# Altium integrated library BB Video Multiplexer.IntLib: 32 symbols
Pins are listed as number, name and electrical type; pins without a type are passive.

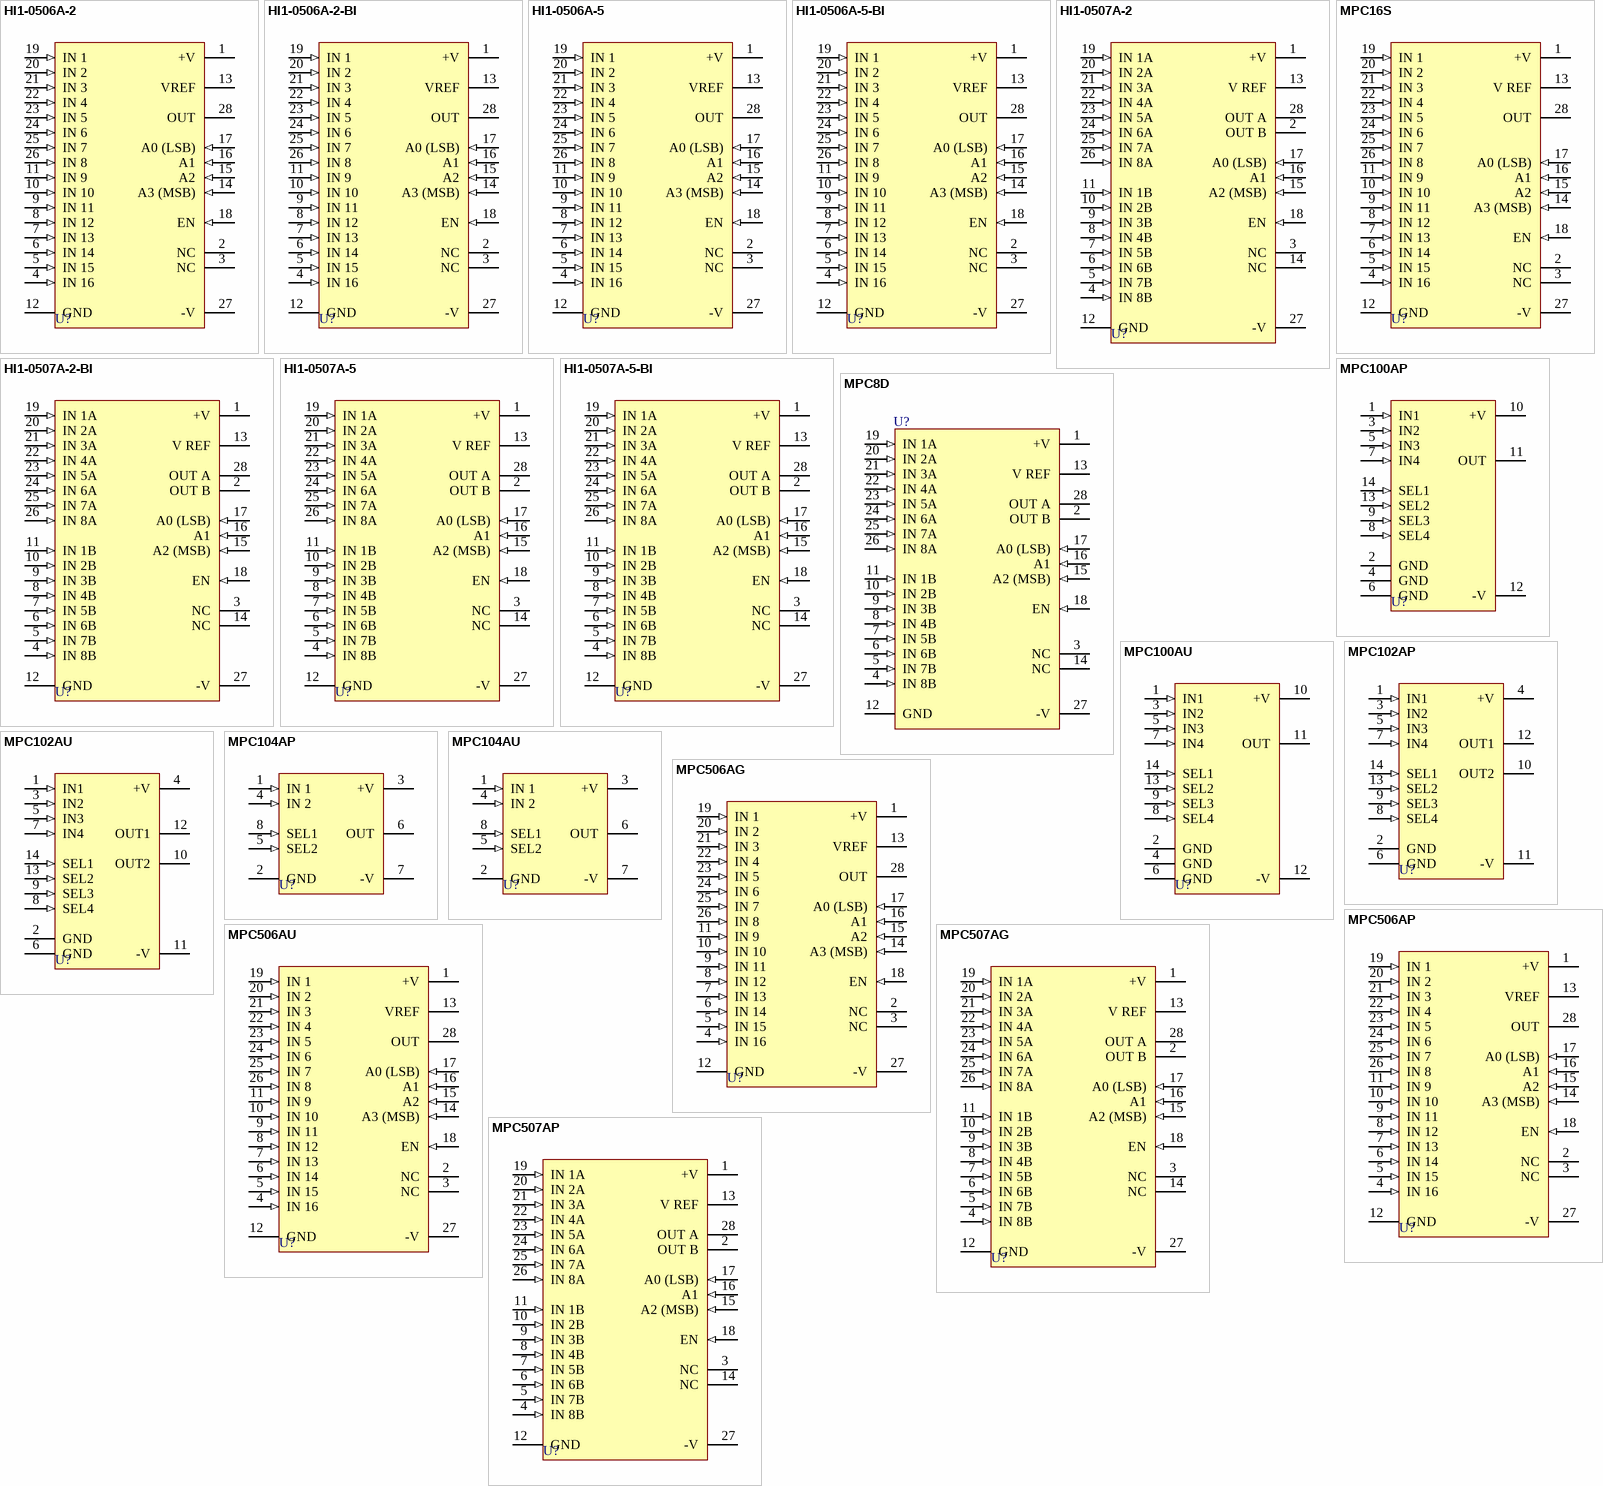
[diagram p0: symbols HI1-0506A-2 to MPC507AP]

## HI1-0506A-2
designator U?
Single-Ended 16-Channel CMOS Analog Multiplexers; Note: Pin 2 and 3 are No internal Connection (NC) pins.; Published: 8-Jun-2000; LatestRevisionDate: 06-Jun-2005; LatestRevisionNote: Stylized 3D Model Added.; DatasheetVersion: 1989; PackageVersion: revB; PackageReference: 126B; Publisher: Altium Limited; PackageDescription: DIP; 28 Leads; Row Spacing 15.24 mm; Pitch 2.54 mm; ComponentLink1Description: Manufacturer Link; ComponentLink1URL: http://www.ti.com/
footprint 126B (DIP; 28 Leads; Row Spacing 15.24 mm; Pitch 2.54 mm)
3D model P28 (DIP; 28 Leads; Row Spacing 15.24 mm; Pitch 2.54 mm)
pins: 1 +V (power), 2 NC, 3 NC, 4 IN 16 (in), 5 IN 15 (in), 6 IN 14 (in), 7 IN 13 (in), 8 IN 12 (in), 9 IN 11 (in), 10 IN 10 (in), 11 IN 9 (in), 12 GND (power), 13 VREF, 14 A3 (MSB) (in), 15 A2 (in), 16 A1 (in), 17 A0 (LSB) (in), 18 EN (in), 19 IN 1 (in), 20 IN 2 (in), 21 IN 3 (in), 22 IN 4 (in), 23 IN 5 (in), 24 IN 6 (in), 25 IN 7 (in), 26 IN 8 (in), 27 -V (power), 28 OUT (hiz)

## HI1-0506A-2-BI
designator U?
Single-Ended 16-Channel CMOS Analog Multiplexers; Note: Pin 2 and 3 are No internal Connection (NC) pins.; Published: 8-Jun-2000; LatestRevisionDate: 06-Jun-2005; LatestRevisionNote: Stylized 3D Model Added.; DatasheetVersion: 1989; PackageVersion: revB; PackageReference: 126B; Publisher: Altium Limited; PackageDescription: DIP; 28 Leads; Row Spacing 15.24 mm; Pitch 2.54 mm; ComponentLink1Description: Manufacturer Link; ComponentLink1URL: http://www.ti.com/
footprint 126B (DIP; 28 Leads; Row Spacing 15.24 mm; Pitch 2.54 mm)
3D model P28 (DIP; 28 Leads; Row Spacing 15.24 mm; Pitch 2.54 mm)
pins: 1 +V (power), 2 NC, 3 NC, 4 IN 16 (in), 5 IN 15 (in), 6 IN 14 (in), 7 IN 13 (in), 8 IN 12 (in), 9 IN 11 (in), 10 IN 10 (in), 11 IN 9 (in), 12 GND (power), 13 VREF, 14 A3 (MSB) (in), 15 A2 (in), 16 A1 (in), 17 A0 (LSB) (in), 18 EN (in), 19 IN 1 (in), 20 IN 2 (in), 21 IN 3 (in), 22 IN 4 (in), 23 IN 5 (in), 24 IN 6 (in), 25 IN 7 (in), 26 IN 8 (in), 27 -V (power), 28 OUT (hiz)

## HI1-0506A-5
designator U?
Single-Ended 16-Channel CMOS Analog Multiplexers; Note: Pin 2 and 3 are No internal Connection (NC) pins.; Published: 8-Jun-2000; LatestRevisionDate: 06-Jun-2005; LatestRevisionNote: Stylized 3D Model Added.; DatasheetVersion: 1989; PackageVersion: revB; PackageReference: 126B; Publisher: Altium Limited; PackageDescription: DIP; 28 Leads; Row Spacing 15.24 mm; Pitch 2.54 mm; ComponentLink1Description: Manufacturer Link; ComponentLink1URL: http://www.ti.com/
footprint 126B (DIP; 28 Leads; Row Spacing 15.24 mm; Pitch 2.54 mm)
3D model P28 (DIP; 28 Leads; Row Spacing 15.24 mm; Pitch 2.54 mm)
pins: 1 +V (power), 2 NC, 3 NC, 4 IN 16 (in), 5 IN 15 (in), 6 IN 14 (in), 7 IN 13 (in), 8 IN 12 (in), 9 IN 11 (in), 10 IN 10 (in), 11 IN 9 (in), 12 GND (power), 13 VREF, 14 A3 (MSB) (in), 15 A2 (in), 16 A1 (in), 17 A0 (LSB) (in), 18 EN (in), 19 IN 1 (in), 20 IN 2 (in), 21 IN 3 (in), 22 IN 4 (in), 23 IN 5 (in), 24 IN 6 (in), 25 IN 7 (in), 26 IN 8 (in), 27 -V (power), 28 OUT (hiz)

## HI1-0506A-5-BI
designator U?
Single-Ended 16-Channel CMOS Analog Multiplexers; Note: Pin 2 and 3 are No internal Connection (NC) pins.; Published: 8-Jun-2000; LatestRevisionDate: 06-Jun-2005; LatestRevisionNote: Stylized 3D Model Added.; DatasheetVersion: 1989; PackageVersion: revB; PackageReference: 126B; Publisher: Altium Limited; PackageDescription: DIP; 28 Leads; Row Spacing 15.24 mm; Pitch 2.54 mm; ComponentLink1Description: Manufacturer Link; ComponentLink1URL: http://www.ti.com/
footprint 126B (DIP; 28 Leads; Row Spacing 15.24 mm; Pitch 2.54 mm)
3D model P28 (DIP; 28 Leads; Row Spacing 15.24 mm; Pitch 2.54 mm)
pins: 1 +V (power), 2 NC, 3 NC, 4 IN 16 (in), 5 IN 15 (in), 6 IN 14 (in), 7 IN 13 (in), 8 IN 12 (in), 9 IN 11 (in), 10 IN 10 (in), 11 IN 9 (in), 12 GND (power), 13 VREF, 14 A3 (MSB) (in), 15 A2 (in), 16 A1 (in), 17 A0 (LSB) (in), 18 EN (in), 19 IN 1 (in), 20 IN 2 (in), 21 IN 3 (in), 22 IN 4 (in), 23 IN 5 (in), 24 IN 6 (in), 25 IN 7 (in), 26 IN 8 (in), 27 -V (power), 28 OUT (hiz)

## HI1-0507A-2
designator U?
Single-Ended Differential 8-Channel CMOS Analog Multiplexers; Note: Pin 3 and 14 are No internal Connection (NC) pins.; Published: 8-Jun-2000; LatestRevisionDate: 06-Jun-2005; LatestRevisionNote: Stylized 3D Model Added.; DatasheetVersion: 1989; PackageVersion: revB; PackageReference: 126B; Publisher: Altium Limited; PackageDescription: DIP; 28 Leads; Row Spacing 15.24 mm; Pitch 2.54 mm; ComponentLink1Description: Manufacturer Link; ComponentLink1URL: http://www.ti.com/
footprint 126B (DIP; 28 Leads; Row Spacing 15.24 mm; Pitch 2.54 mm)
3D model P28 (DIP; 28 Leads; Row Spacing 15.24 mm; Pitch 2.54 mm)
pins: 1 +V (power), 2 OUT B (hiz), 3 NC, 4 IN 8B (in), 5 IN 7B (in), 6 IN 6B (in), 7 IN 5B (in), 8 IN 4B (in), 9 IN 3B (in), 10 IN 2B (in), 11 IN 1B (in), 12 GND (power), 13 V REF, 14 NC, 15 A2 (MSB) (in), 16 A1 (in), 17 A0 (LSB) (in), 18 EN (in), 19 IN 1A (in), 20 IN 2A (in), 21 IN 3A (in), 22 IN 4A (in), 23 IN 5A (in), 24 IN 6A (in), 25 IN 7A (in), 26 IN 8A (in), 27 -V (power), 28 OUT A (hiz)

## HI1-0507A-2-BI
designator U?
Single-Ended Differential 8-Channel CMOS Analog Multiplexers; Note: Pin 3 and 14 are No internal Connection (NC) pins.; Published: 8-Jun-2000; LatestRevisionDate: 06-Jun-2005; LatestRevisionNote: Stylized 3D Model Added.; DatasheetVersion: 1989; PackageVersion: revB; PackageReference: 126B; Publisher: Altium Limited; PackageDescription: DIP; 28 Leads; Row Spacing 15.24 mm; Pitch 2.54 mm; ComponentLink1Description: Manufacturer Link; ComponentLink1URL: http://www.ti.com/
footprint 126B (DIP; 28 Leads; Row Spacing 15.24 mm; Pitch 2.54 mm)
3D model P28 (DIP; 28 Leads; Row Spacing 15.24 mm; Pitch 2.54 mm)
pins: 1 +V (power), 2 OUT B (hiz), 3 NC, 4 IN 8B (in), 5 IN 7B (in), 6 IN 6B (in), 7 IN 5B (in), 8 IN 4B (in), 9 IN 3B (in), 10 IN 2B (in), 11 IN 1B (in), 12 GND (power), 13 V REF, 14 NC, 15 A2 (MSB) (in), 16 A1 (in), 17 A0 (LSB) (in), 18 EN (in), 19 IN 1A (in), 20 IN 2A (in), 21 IN 3A (in), 22 IN 4A (in), 23 IN 5A (in), 24 IN 6A (in), 25 IN 7A (in), 26 IN 8A (in), 27 -V (power), 28 OUT A (hiz)

## HI1-0507A-5
designator U?
Single-Ended Differential 8-Channel CMOS Analog Multiplexers; Note: Pin 3 and 14 are No internal Connection (NC) pins.; Published: 8-Jun-2000; LatestRevisionDate: 06-Jun-2005; LatestRevisionNote: Stylized 3D Model Added.; DatasheetVersion: 1989; PackageVersion: revB; PackageReference: 126B; Publisher: Altium Limited; PackageDescription: DIP; 28 Leads; Row Spacing 15.24 mm; Pitch 2.54 mm; ComponentLink1Description: Manufacturer Link; ComponentLink1URL: http://www.ti.com/
footprint 126B (DIP; 28 Leads; Row Spacing 15.24 mm; Pitch 2.54 mm)
3D model P28 (DIP; 28 Leads; Row Spacing 15.24 mm; Pitch 2.54 mm)
pins: 1 +V (power), 2 OUT B (hiz), 3 NC, 4 IN 8B (in), 5 IN 7B (in), 6 IN 6B (in), 7 IN 5B (in), 8 IN 4B (in), 9 IN 3B (in), 10 IN 2B (in), 11 IN 1B (in), 12 GND (power), 13 V REF, 14 NC, 15 A2 (MSB) (in), 16 A1 (in), 17 A0 (LSB) (in), 18 EN (in), 19 IN 1A (in), 20 IN 2A (in), 21 IN 3A (in), 22 IN 4A (in), 23 IN 5A (in), 24 IN 6A (in), 25 IN 7A (in), 26 IN 8A (in), 27 -V (power), 28 OUT A (hiz)

## HI1-0507A-5-BI
designator U?
Single-Ended Differential 8-Channel CMOS Analog Multiplexers; Note: Pin 3 and 14 are No internal Connection (NC) pins.; Published: 8-Jun-2000; LatestRevisionDate: 06-Jun-2005; LatestRevisionNote: Stylized 3D Model Added.; DatasheetVersion: 1989; PackageVersion: revB; PackageReference: 126B; Publisher: Altium Limited; PackageDescription: DIP; 28 Leads; Row Spacing 15.24 mm; Pitch 2.54 mm; ComponentLink1Description: Manufacturer Link; ComponentLink1URL: http://www.ti.com/
footprint 126B (DIP; 28 Leads; Row Spacing 15.24 mm; Pitch 2.54 mm)
3D model P28 (DIP; 28 Leads; Row Spacing 15.24 mm; Pitch 2.54 mm)
pins: 1 +V (power), 2 OUT B (hiz), 3 NC, 4 IN 8B (in), 5 IN 7B (in), 6 IN 6B (in), 7 IN 5B (in), 8 IN 4B (in), 9 IN 3B (in), 10 IN 2B (in), 11 IN 1B (in), 12 GND (power), 13 V REF, 14 NC, 15 A2 (MSB) (in), 16 A1 (in), 17 A0 (LSB) (in), 18 EN (in), 19 IN 1A (in), 20 IN 2A (in), 21 IN 3A (in), 22 IN 4A (in), 23 IN 5A (in), 24 IN 6A (in), 25 IN 7A (in), 26 IN 8A (in), 27 -V (power), 28 OUT A (hiz)

## MPC8D
designator U?
CMOS Analog Multiplexer; Note: Pin 3 and 14 are No internal Connection (NC) pins.; Published: 8-Jun-2000; LatestRevisionDate: 06-Jun-2005; LatestRevisionNote: Stylized 3D Model Added.; DatasheetVersion: Apr-1988; PackageVersion: revB; PackageReference: 126B; Publisher: Altium Limited; PackageDescription: DIP; 28 Leads; Row Spacing 15.24 mm; Pitch 2.54 mm; ComponentLink1Description: Manufacturer Link; ComponentLink1URL: http://www.ti.com/
footprint 126B (DIP; 28 Leads; Row Spacing 15.24 mm; Pitch 2.54 mm)
3D model P28 (DIP; 28 Leads; Row Spacing 15.24 mm; Pitch 2.54 mm)
pins: 1 +V (power), 2 OUT B (hiz), 3 NC, 4 IN 8B (in), 5 IN 7B (in), 6 IN 6B (in), 7 IN 5B (in), 8 IN 4B (in), 9 IN 3B (in), 10 IN 2B (in), 11 IN 1B (in), 12 GND (power), 13 V REF, 14 NC, 15 A2 (MSB) (in), 16 A1 (in), 17 A0 (LSB) (in), 18 EN (in), 19 IN 1A (in), 20 IN 2A (in), 21 IN 3A (in), 22 IN 4A (in), 23 IN 5A (in), 24 IN 6A (in), 25 IN 7A (in), 26 IN 8A (in), 27 -V (power), 28 OUT A (hiz)

## MPC16S
designator U?
CMOS Analog Multiplexer; Note: Pins 2 and 3 are No internal Connection (NC) pins.; Published: 8-Jun-2000; LatestRevisionDate: 06-Jun-2005; LatestRevisionNote: Stylized 3D Model Added.; DatasheetVersion: Apr-1988; PackageVersion: revB; PackageReference: 126B; Publisher: Altium Limited; PackageDescription: DIP; 28 Leads; Row Spacing 15.24 mm; Pitch 2.54 mm; ComponentLink1Description: Manufacturer Link; ComponentLink1URL: http://www.ti.com/
footprint 126B (DIP; 28 Leads; Row Spacing 15.24 mm; Pitch 2.54 mm)
3D model P28 (DIP; 28 Leads; Row Spacing 15.24 mm; Pitch 2.54 mm)
pins: 1 +V (power), 2 NC, 3 NC, 4 IN 16 (in), 5 IN 15 (in), 6 IN 14 (in), 7 IN 13 (in), 8 IN 12 (in), 9 IN 11 (in), 10 IN 10 (in), 11 IN 9 (in), 12 GND (power), 13 V REF, 14 A3 (MSB) (in), 15 A2 (in), 16 A1 (in), 17 A0 (LSB) (in), 18 EN (in), 19 IN 1 (in), 20 IN 2 (in), 21 IN 3 (in), 22 IN 4 (in), 23 IN 5 (in), 24 IN 6 (in), 25 IN 7 (in), 26 IN 8 (in), 27 -V (power), 28 OUT (hiz)

## MPC100AP
designator U?
Wide-Bandwidth  4 x 1 Video Multiplexer; Published: 8-Jun-2000; LatestRevisionDate: 06-Jun-2005; LatestRevisionNote: Stylized 3D Model Added.; DatasheetVersion: Mar-1995; PackageVersion: 1996/1997; PackageReference: 010G; Publisher: Altium Limited; PackageDescription: DIP; 14 Leads; Row Spacing 7.62 mm; Pitch 2.54 mm; ComponentLink1Description: Manufacturer Link; ComponentLink1URL: http://www.ti.com/; ComponentLink2Description: Datasheet; ComponentLink2URL: http://www-s.ti.com/sc/ds/MPC100.pdf
footprint 010G (DIP; 14 Leads; Row Spacing 7.62 mm; Pitch 2.54 mm)
3D model 010G (DIP; 14 Leads; Row Spacing 7.62 mm; Pitch 2.54 mm)
pins: 1 IN1 (in), 2 GND (power), 3 IN2 (in), 4 GND (power), 5 IN3 (in), 6 GND (power), 7 IN4 (in), 8 SEL4 (in), 9 SEL3 (in), 10 +V (power), 11 OUT (hiz), 12 -V (power), 13 SEL2 (in), 14 SEL1 (in)

## MPC100AU
designator U?
Wide-Bandwidth  4 x 1 Video Multiplexer; Published: 8-Jun-2000; LatestRevisionDate: 13-Apr-2006; LatestRevisionNote: IPC-7351 Footprint Added.; DatasheetVersion: Mar-1995; PackageReference: 235E; Publisher: Altium Limited; PackageDescription: 14-Pin Small Outline Integrated Circuit 1.27 mm Pitch; Code_JEDEC: MS-012-AB; Code_IPC: SOIC127P600-14; ComponentLink1Description: Manufacturer Link; ComponentLink1URL: http://www.ti.com/; ComponentLink2Description: Datasheet; ComponentLink2URL: http://www-s.ti.com/sc/ds/MPC100.pdf
footprint 235E_N (SOIC, 14-Leads, Body 8.7x3.9mm, Pitch 1.27mm, IPC Medium Density)
footprint 235E_L (SOIC, 14-Leads, Body 8.7x3.9mm, Pitch 1.27mm, IPC High Density)
footprint 235E_M (SOIC, 14-Leads, Body 8.7x3.9mm, Pitch 1.27mm, IPC Low Density)
3D model SOIC14 (14-Pin Small Outline Integrated Circuit 1.27 mm Pitch)
pins: 1 IN1 (in), 2 GND (power), 3 IN2 (in), 4 GND (power), 5 IN3 (in), 6 GND (power), 7 IN4 (in), 8 SEL4 (in), 9 SEL3 (in), 10 +V (power), 11 OUT (hiz), 12 -V (power), 13 SEL2 (in), 14 SEL1 (in)

## MPC102AP
designator U?
Wide-Bandwidth Differential  2 x 1 Multiplexer; Published: 8-Jun-2000; LatestRevisionDate: 06-Jun-2005; LatestRevisionNote: Stylized 3D Model Added.; DatasheetVersion: Jan-1995; PackageVersion: 1996/1997; PackageReference: 010G; Publisher: Altium Limited; PackageDescription: DIP; 14 Leads; Row Spacing 7.62 mm; Pitch 2.54 mm; ComponentLink1Description: Manufacturer Link; ComponentLink1URL: http://www.ti.com/; ComponentLink2Description: Datasheet; ComponentLink2URL: http://www-s.ti.com/sc/ds/MPC102.pdf
footprint 010G (DIP; 14 Leads; Row Spacing 7.62 mm; Pitch 2.54 mm)
3D model 010G (DIP; 14 Leads; Row Spacing 7.62 mm; Pitch 2.54 mm)
pins: 1 IN1 (in), 2 GND (power), 3 IN2 (in), 4 +V (power), 5 IN3 (in), 6 GND (power), 7 IN4 (in), 8 SEL4 (in), 9 SEL3 (in), 10 OUT2 (hiz), 11 -V (power), 12 OUT1 (hiz), 13 SEL2 (in), 14 SEL1 (in)

## MPC102AU
designator U?
Wide-Bandwidth Differential  2 x 1 Multiplexer; Published: 8-Jun-2000; LatestRevisionDate: 13-Apr-2006; LatestRevisionNote: IPC-7351 Footprint Added.; DatasheetVersion: Jan-1995; PackageReference: 235E; Publisher: Altium Limited; PackageDescription: 14-Pin Small Outline Integrated Circuit 1.27 mm Pitch; Code_JEDEC: MS-012-AB; Code_IPC: SOIC127P600-14; ComponentLink1Description: Manufacturer Link; ComponentLink1URL: http://www.ti.com/; ComponentLink2Description: Datasheet; ComponentLink2URL: http://www-s.ti.com/sc/ds/MPC102.pdf
footprint 235E_N (SOIC, 14-Leads, Body 8.7x3.9mm, Pitch 1.27mm, IPC Medium Density)
footprint 235E_L (SOIC, 14-Leads, Body 8.7x3.9mm, Pitch 1.27mm, IPC High Density)
footprint 235E_M (SOIC, 14-Leads, Body 8.7x3.9mm, Pitch 1.27mm, IPC Low Density)
3D model SOIC14 (14-Pin Small Outline Integrated Circuit 1.27 mm Pitch)
pins: 1 IN1 (in), 2 GND (power), 3 IN2 (in), 4 +V (power), 5 IN3 (in), 6 GND (power), 7 IN4 (in), 8 SEL4 (in), 9 SEL3 (in), 10 OUT2 (hiz), 11 -V (power), 12 OUT1 (hiz), 13 SEL2 (in), 14 SEL1 (in)

## MPC104AP
designator U?
Wide-Bandwidth  2 x 1 Video Multiplexer; Published: 8-Jun-2000; LatestRevisionDate: 06-Jun-2005; LatestRevisionNote: Stylized 3D Model Added.; DatasheetVersion: Jul-1994; PackageVersion: revE; PackageReference: 006E; Publisher: Altium Limited; PackageDescription: DIP; 8 Leads; Row Spacing 7.62 mm; Pitch 2.54 mm; ComponentLink1Description: Manufacturer Link; ComponentLink1URL: http://www.ti.com/; ComponentLink2Description: Datasheet; ComponentLink2URL: http://www-s.ti.com/sc/ds/MPC104.pdf
footprint 006E (DIP; 8 Leads; Row Spacing 7.62 mm; Pitch 2.54 mm)
3D model DIP8 (DIP; 8 Leads; Row Spacing 7.62 mm; Pitch 2.54 mm)
pins: 1 IN 1 (in), 2 GND (power), 3 +V (power), 4 IN 2 (in), 5 SEL2 (in), 6 OUT (hiz), 7 -V (power), 8 SEL1 (in)

## MPC104AU
designator U?
Wide-Bandwidth  2 x 1 Video Multiplexer; Published: 8-Jun-2000; LatestRevisionDate: 13-Apr-2006; LatestRevisionNote: IPC-7351 Footprint Added.; DatasheetVersion: Jul-1994; PackageReference: 182H; Publisher: Altium Limited; PackageDescription: 8-Pin Small Outline Integrated Circuit 1.27 mm Pitch; Code_JEDEC: MS-012-AA; Code_IPC: SOIC127P600-8; ComponentLink1Description: Manufacturer Link; ComponentLink1URL: http://www.ti.com/; ComponentLink2Description: Datasheet; ComponentLink2URL: http://www-s.ti.com/sc/ds/MPC104.pdf
footprint 182H_N (SOIC, 8-Leads, Body 4.9x3.9mm, Pitch 1.27mm, IPC Medium Density)
footprint 182H_L (SOIC, 8-Leads, Body 4.9x3.9mm, Pitch 1.27mm, IPC High Density)
footprint 182H_M (SOIC, 8-Leads, Body 4.9x3.9mm, Pitch 1.27mm, IPC Low Density)
3D model SOIC8 (8-Pin Small Outline Integrated Circuit 1.27 mm Pitch)
pins: 1 IN 1 (in), 2 GND (power), 3 +V (power), 4 IN 2 (in), 5 SEL2 (in), 6 OUT (hiz), 7 -V (power), 8 SEL1 (in)

## MPC506AG
designator U?
Single-Ended 16-Channel  CMOS Analog Multiplexers; Note: Pin 2 and 3 are No internal Connection (NC) pins.; Published: 8-Jun-2000; LatestRevisionDate: 06-Jun-2005; LatestRevisionNote: Stylized 3D Model Added.; DatasheetVersion: 1994; PackageReference: 126-1S; Publisher: Altium Limited; PackageDescription: DIP; 28 Leads; Row Spacing 15.24 mm; Pitch 2.54 mm; ComponentLink1Description: Manufacturer Link; ComponentLink1URL: http://www.ti.com/; ComponentLink2Description: Datasheet; ComponentLink2URL: http://www-s.ti.com/sc/ds/mpc506.pdf
footprint 126-1S (DIP; 28 Leads; Row Spacing 15.24 mm; Pitch 2.54 mm)
3D model P28 (DIP; 28 Leads; Row Spacing 15.24 mm; Pitch 2.54 mm)
pins: 1 +V (power), 2 NC, 3 NC, 4 IN 16 (in), 5 IN 15 (in), 6 IN 14 (in), 7 IN 13 (in), 8 IN 12 (in), 9 IN 11 (in), 10 IN 10 (in), 11 IN 9 (in), 12 GND (power), 13 VREF, 14 A3 (MSB) (in), 15 A2 (in), 16 A1 (in), 17 A0 (LSB) (in), 18 EN (in), 19 IN 1 (in), 20 IN 2 (in), 21 IN 3 (in), 22 IN 4 (in), 23 IN 5 (in), 24 IN 6 (in), 25 IN 7 (in), 26 IN 8 (in), 27 -V (power), 28 OUT (hiz)

## MPC506AP
designator U?
Single-Ended 16-Channel  CMOS Analog Multiplexer; Note: Pin 2 and 3 are No internal Connection (NC) pins.; Published: 8-Jun-2000; LatestRevisionDate: 06-Jun-2005; LatestRevisionNote: Stylized 3D Model Added.; DatasheetVersion: Mar-1998; PackageVersion: revJ; PackageReference: 215J; Publisher: Altium Limited; PackageDescription: DIP; 28 Leads; Row Spacing 15.24 mm; Pitch 2.54 mm; Code_JEDEC: MS-011-AB; ComponentLink1Description: Manufacturer Link; ComponentLink1URL: http://www.ti.com/; ComponentLink2Description: Datasheet; ComponentLink2URL: http://www-s.ti.com/sc/ds/MPC506.pdf
footprint 215J (DIP; 28 Leads; Row Spacing 15.24 mm; Pitch 2.54 mm)
3D model 215J (DIP; 28 Leads; Row Spacing 15.24 mm; Pitch 2.54 mm)
pins: 1 +V (power), 2 NC, 3 NC, 4 IN 16 (in), 5 IN 15 (in), 6 IN 14 (in), 7 IN 13 (in), 8 IN 12 (in), 9 IN 11 (in), 10 IN 10 (in), 11 IN 9 (in), 12 GND (power), 13 VREF, 14 A3 (MSB) (in), 15 A2 (in), 16 A1 (in), 17 A0 (LSB) (in), 18 EN (in), 19 IN 1 (in), 20 IN 2 (in), 21 IN 3 (in), 22 IN 4 (in), 23 IN 5 (in), 24 IN 6 (in), 25 IN 7 (in), 26 IN 8 (in), 27 -V (power), 28 OUT (hiz)

## MPC506AU
designator U?
Single-Ended 16-Channel  CMOS Analog Multiplexer; Note: Pin 2 and 3 are No internal Connection (NC) pins.; Published: 8-Jun-2000; LatestRevisionDate: 13-Apr-2006; LatestRevisionNote: IPC-7351 Footprint Added.; DatasheetVersion: Mar-1998; PackageReference: 217G; Publisher: Altium Limited; PackageDescription: 28-Pin Small Outline Integrated Circuit 1.27 mm Pitch; ComponentLink1Description: Manufacturer Link; ComponentLink1URL: http://www.ti.com/; ComponentLink2Description: Datasheet; ComponentLink2URL: http://www-s.ti.com/sc/ds/MPC506.pdf
footprint 217G_N (SOIC, 28-Leads, Body 17.9x7.5mm, Pitch 1.27mm, IPC Medium Density)
footprint 217G_L (SOIC, 28-Leads, Body 17.9x7.5mm, Pitch 1.27mm, IPC High Density)
footprint 217G_M (SOIC, 28-Leads, Body 17.9x7.5mm, Pitch 1.27mm, IPC Low Density)
3D model 217G (28-Pin Small Outline Integrated Circuit 1.27 mm Pitch)
pins: 1 +V (power), 2 NC, 3 NC, 4 IN 16 (in), 5 IN 15 (in), 6 IN 14 (in), 7 IN 13 (in), 8 IN 12 (in), 9 IN 11 (in), 10 IN 10 (in), 11 IN 9 (in), 12 GND (power), 13 VREF, 14 A3 (MSB) (in), 15 A2 (in), 16 A1 (in), 17 A0 (LSB) (in), 18 EN (in), 19 IN 1 (in), 20 IN 2 (in), 21 IN 3 (in), 22 IN 4 (in), 23 IN 5 (in), 24 IN 6 (in), 25 IN 7 (in), 26 IN 8 (in), 27 -V (power), 28 OUT (hiz)

## MPC507AG
designator U?
Single-Ended Differential 8-Channel CMOS Analog Multiplexers; Note: Pin 3 and 14 are No internal Connection (NC) pins.; Published: 8-Jun-2000; LatestRevisionDate: 06-Jun-2005; LatestRevisionNote: Stylized 3D Model Added.; DatasheetVersion: 1994; PackageReference: 126-1S; Publisher: Altium Limited; PackageDescription: DIP; 28 Leads; Row Spacing 15.24 mm; Pitch 2.54 mm; ComponentLink1Description: Manufacturer Link; ComponentLink1URL: http://www.ti.com/; ComponentLink2Description: Datasheet; ComponentLink2URL: http://www-s.ti.com/sc/ds/mpc507.pdf
footprint 126-1S (DIP; 28 Leads; Row Spacing 15.24 mm; Pitch 2.54 mm)
3D model P28 (DIP; 28 Leads; Row Spacing 15.24 mm; Pitch 2.54 mm)
pins: 1 +V (power), 2 OUT B (hiz), 3 NC, 4 IN 8B (in), 5 IN 7B (in), 6 IN 6B (in), 7 IN 5B (in), 8 IN 4B (in), 9 IN 3B (in), 10 IN 2B (in), 11 IN 1B (in), 12 GND (power), 13 V REF, 14 NC, 15 A2 (MSB) (in), 16 A1 (in), 17 A0 (LSB) (in), 18 EN (in), 19 IN 1A (in), 20 IN 2A (in), 21 IN 3A (in), 22 IN 4A (in), 23 IN 5A (in), 24 IN 6A (in), 25 IN 7A (in), 26 IN 8A (in), 27 -V (power), 28 OUT A (hiz)

## MPC507AP
designator U?
Single-Ended Differential 8-Channel CMOS Analog Multiplexer; Note: Pin 3 and 14 are No internal Connection (NC) pins.; Published: 8-Jun-2000; LatestRevisionDate: 06-Jun-2005; LatestRevisionNote: Stylized 3D Model Added.; DatasheetVersion: Mar-1998; PackageVersion: revJ; PackageReference: 215J; Publisher: Altium Limited; PackageDescription: DIP; 28 Leads; Row Spacing 15.24 mm; Pitch 2.54 mm; Code_JEDEC: MS-011-AB; ComponentLink1Description: Manufacturer Link; ComponentLink1URL: http://www.ti.com/; ComponentLink2Description: Datasheet; ComponentLink2URL: http://www-s.ti.com/sc/ds/MPC506.pdf
footprint 215J (DIP; 28 Leads; Row Spacing 15.24 mm; Pitch 2.54 mm)
3D model 215J (DIP; 28 Leads; Row Spacing 15.24 mm; Pitch 2.54 mm)
pins: 1 +V (power), 2 OUT B (hiz), 3 NC, 4 IN 8B (in), 5 IN 7B (in), 6 IN 6B (in), 7 IN 5B (in), 8 IN 4B (in), 9 IN 3B (in), 10 IN 2B (in), 11 IN 1B (in), 12 GND (power), 13 V REF, 14 NC, 15 A2 (MSB) (in), 16 A1 (in), 17 A0 (LSB) (in), 18 EN (in), 19 IN 1A (in), 20 IN 2A (in), 21 IN 3A (in), 22 IN 4A (in), 23 IN 5A (in), 24 IN 6A (in), 25 IN 7A (in), 26 IN 8A (in), 27 -V (power), 28 OUT A (hiz)

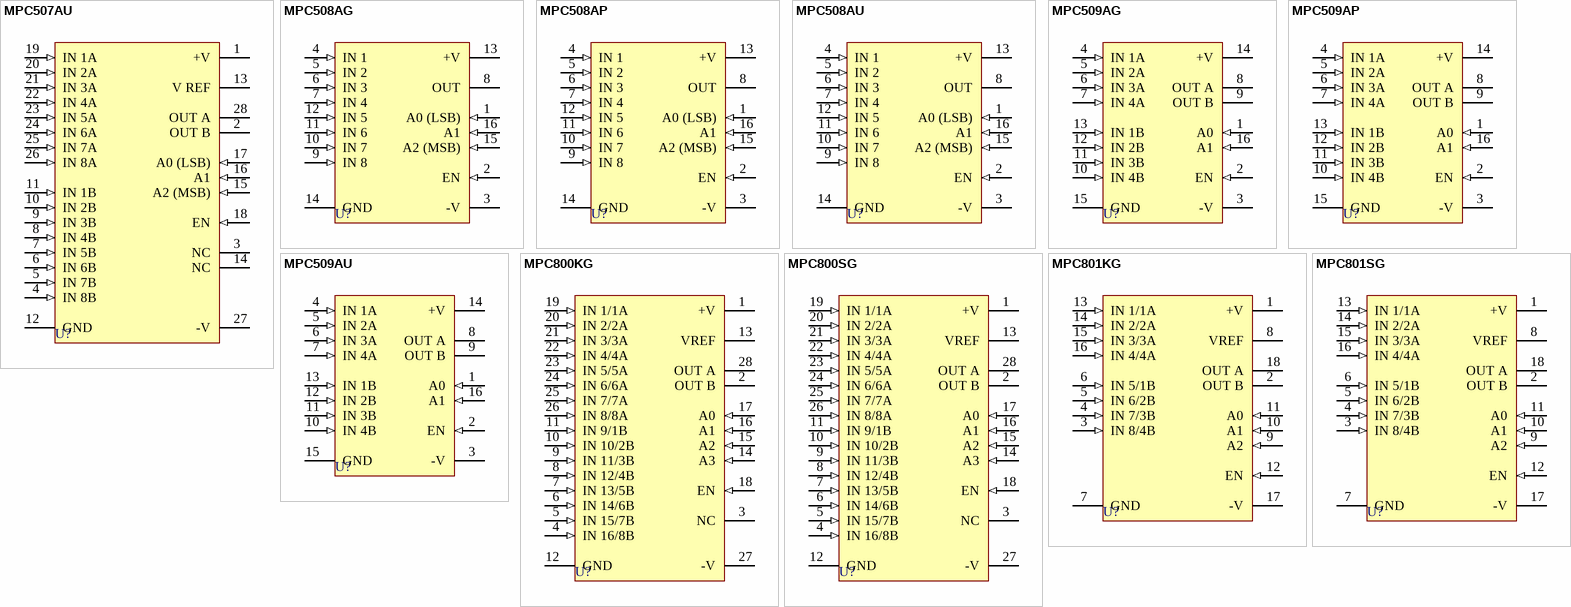
[diagram p1: symbols MPC507AU to MPC801SG]

## MPC507AU
designator U?
Single-Ended Differential 8-Channel CMOS Analog Multiplexer; Note: Pin 3 and 14 are No internal Connection (NC) pins.; Published: 8-Jun-2000; LatestRevisionDate: 13-Apr-2006; LatestRevisionNote: IPC-7351 Footprint Added.; DatasheetVersion: Mar-1998; PackageReference: 217G; Publisher: Altium Limited; PackageDescription: 28-Pin Small Outline Integrated Circuit 1.27 mm Pitch; ComponentLink1Description: Manufacturer Link; ComponentLink1URL: http://www.ti.com/; ComponentLink2Description: Datasheet; ComponentLink2URL: http://www-s.ti.com/sc/ds/MPC506.pdf
footprint 217G_N (SOIC, 28-Leads, Body 17.9x7.5mm, Pitch 1.27mm, IPC Medium Density)
footprint 217G_L (SOIC, 28-Leads, Body 17.9x7.5mm, Pitch 1.27mm, IPC High Density)
footprint 217G_M (SOIC, 28-Leads, Body 17.9x7.5mm, Pitch 1.27mm, IPC Low Density)
3D model 217G (28-Pin Small Outline Integrated Circuit 1.27 mm Pitch)
pins: 1 +V (power), 2 OUT B (hiz), 3 NC, 4 IN 8B (in), 5 IN 7B (in), 6 IN 6B (in), 7 IN 5B (in), 8 IN 4B (in), 9 IN 3B (in), 10 IN 2B (in), 11 IN 1B (in), 12 GND (power), 13 V REF, 14 NC, 15 A2 (MSB) (in), 16 A1 (in), 17 A0 (LSB) (in), 18 EN (in), 19 IN 1A (in), 20 IN 2A (in), 21 IN 3A (in), 22 IN 4A (in), 23 IN 5A (in), 24 IN 6A (in), 25 IN 7A (in), 26 IN 8A (in), 27 -V (power), 28 OUT A (hiz)

## MPC508AG
designator U?
Single-Ended 8-Channel CMOS Analog Multiplexers; Published: 8-Jun-2000; LatestRevisionDate: 06-Jun-2005; LatestRevisionNote: Stylized 3D Model Added.; DatasheetVersion: 1994; PackageVersion: revD; PackageReference: ZZ129; Publisher: Altium Limited; PackageDescription: CerDIP; 16 Leads; Row Spacing 7.62 mm; Pitch 2.54 mm; ComponentLink1Description: Manufacturer Link; ComponentLink1URL: http://www.ti.com/; ComponentLink2Description: Datasheet; ComponentLink2URL: http://www-s.ti.com/sc/ds/mpc508.pdf
footprint ZZ129 (CerDIP; 16 Leads; Row Spacing 7.62 mm; Pitch 2.54 mm)
3D model ZZ129 (CerDIP; 16 Leads; Row Spacing 7.62 mm; Pitch 2.54 mm)
pins: 1 A0 (LSB) (in), 2 EN (in), 3 -V (power), 4 IN 1 (in), 5 IN 2 (in), 6 IN 3 (in), 7 IN 4 (in), 8 OUT (hiz), 9 IN 8 (in), 10 IN 7 (in), 11 IN 6 (in), 12 IN 5 (in), 13 +V (power), 14 GND (power), 15 A2 (MSB) (in), 16 A1 (in)

## MPC508AP
designator U?
Single-Ended 8-Channel CMOS Analog Multiplexers; Published: 8-Jun-2000; LatestRevisionDate: 06-Jun-2005; LatestRevisionNote: Stylized 3D Model Added.; DatasheetVersion: Mar-1998; PackageVersion: revF; PackageReference: ZZ180; Publisher: Altium Limited; PackageDescription: DIP, Plastic; 16 Leads; Row Spacing 7.62 mm; Pitch 2.54 mm; Code_JEDEC: MS-001-BB; ComponentLink1Description: Manufacturer Link; ComponentLink1URL: http://www.ti.com/; ComponentLink2Description: Datasheet; ComponentLink2URL: http://www-s.ti.com/sc/ds/mpc508.pdf
footprint ZZ180 (DIP, Plastic; 16 Leads; Row Spacing 7.62 mm; Pitch 2.54 mm)
3D model ZZ180 (DIP, Plastic; 16 Leads; Row Spacing 7.62 mm; Pitch 2.54 mm)
pins: 1 A0 (LSB) (in), 2 EN (in), 3 -V (power), 4 IN 1 (in), 5 IN 2 (in), 6 IN 3 (in), 7 IN 4 (in), 8 OUT (hiz), 9 IN 8 (in), 10 IN 7 (in), 11 IN 6 (in), 12 IN 5 (in), 13 +V (power), 14 GND (power), 15 A2 (MSB) (in), 16 A1 (in)

## MPC508AU
designator U?
Single-Ended 8-Channel CMOS Analog Multiplexers; Published: 8-Jun-2000; LatestRevisionDate: 13-Apr-2006; LatestRevisionNote: IPC-7351 Footprint Added.; DatasheetVersion: Mar-1998; PackageReference: 211F; Publisher: Altium Limited; PackageDescription: 16-Pin Small Outline Integrated Circuit 1.27 mm Pitch; Code_JEDEC: MS-013-AA; Code_IPC: SOIC127P1030-16; ComponentLink1Description: Manufacturer Link; ComponentLink1URL: http://www.ti.com/; ComponentLink2Description: Datasheet; ComponentLink2URL: http://www-s.ti.com/sc/ds/mpc508.pdf
footprint 211F_N (SOIC, 16-Leads, Body 10.3x7.5mm, Pitch 1.27mm, IPC Medium Density)
footprint 211F_L (SOIC, 16-Leads, Body 10.3x7.5mm, Pitch 1.27mm, IPC High Density)
footprint 211F_M (SOIC, 16-Leads, Body 10.3x7.5mm, Pitch 1.27mm, IPC Low Density)
3D model SOIC16 (16-Pin Small Outline Integrated Circuit 1.27 mm Pitch)
pins: 1 A0 (LSB) (in), 2 EN (in), 3 -V (power), 4 IN 1 (in), 5 IN 2 (in), 6 IN 3 (in), 7 IN 4 (in), 8 OUT (hiz), 9 IN 8 (in), 10 IN 7 (in), 11 IN 6 (in), 12 IN 5 (in), 13 +V (power), 14 GND (power), 15 A2 (MSB) (in), 16 A1 (in)

## MPC509AG
designator U?
Single-Ended Differential 4-Channel CMOS Analog Multiplexers; Published: 8-Jun-2000; LatestRevisionDate: 06-Jun-2005; LatestRevisionNote: Stylized 3D Model Added.; DatasheetVersion: 1994; PackageVersion: revD; PackageReference: ZZ129; Publisher: Altium Limited; PackageDescription: CerDIP; 16 Leads; Row Spacing 7.62 mm; Pitch 2.54 mm; ComponentLink1Description: Manufacturer Link; ComponentLink1URL: http://www.ti.com/; ComponentLink2Description: Datasheet; ComponentLink2URL: http://www-s.ti.com/sc/ds/mpc509.pdf
footprint ZZ129 (CerDIP; 16 Leads; Row Spacing 7.62 mm; Pitch 2.54 mm)
3D model ZZ129 (CerDIP; 16 Leads; Row Spacing 7.62 mm; Pitch 2.54 mm)
pins: 1 A0 (in), 2 EN (in), 3 -V (power), 4 IN 1A (in), 5 IN 2A (in), 6 IN 3A (in), 7 IN 4A (in), 8 OUT A (hiz), 9 OUT B (hiz), 10 IN 4B (in), 11 IN 3B (in), 12 IN 2B (in), 13 IN 1B (in), 14 +V (power), 15 GND (power), 16 A1 (in)

## MPC509AP
designator U?
Single-Ended Differential 4-Channel CMOS Analog Multiplexers; Published: 8-Jun-2000; LatestRevisionDate: 06-Jun-2005; LatestRevisionNote: Stylized 3D Model Added.; DatasheetVersion: Mar-1998; PackageVersion: revF; PackageReference: ZZ180; Publisher: Altium Limited; PackageDescription: DIP, Plastic; 16 Leads; Row Spacing 7.62 mm; Pitch 2.54 mm; Code_JEDEC: MS-001-BB; ComponentLink1Description: Manufacturer Link; ComponentLink1URL: http://www.ti.com/; ComponentLink2Description: Datasheet; ComponentLink2URL: http://www-s.ti.com/sc/ds/MPC508.pdf
footprint ZZ180 (DIP, Plastic; 16 Leads; Row Spacing 7.62 mm; Pitch 2.54 mm)
3D model ZZ180 (DIP, Plastic; 16 Leads; Row Spacing 7.62 mm; Pitch 2.54 mm)
pins: 1 A0 (in), 2 EN (in), 3 -V (power), 4 IN 1A (in), 5 IN 2A (in), 6 IN 3A (in), 7 IN 4A (in), 8 OUT A (hiz), 9 OUT B (hiz), 10 IN 4B (in), 11 IN 3B (in), 12 IN 2B (in), 13 IN 1B (in), 14 +V (power), 15 GND (power), 16 A1 (in)

## MPC509AU
designator U?
Single-Ended Differential 4-Channel CMOS Analog Multiplexers; Published: 8-Jun-2000; LatestRevisionDate: 13-Apr-2006; LatestRevisionNote: IPC-7351 Footprint Added.; DatasheetVersion: Mar-1998; PackageReference: 211F; Publisher: Altium Limited; PackageDescription: 16-Pin Small Outline Integrated Circuit 1.27 mm Pitch; Code_JEDEC: MS-013-AA; Code_IPC: SOIC127P1030-16; ComponentLink1Description: Manufacturer Link; ComponentLink1URL: http://www.ti.com/; ComponentLink2Description: Datasheet; ComponentLink2URL: http://www-s.ti.com/sc/ds/MPC508.pdf
footprint 211F_N (SOIC, 16-Leads, Body 10.3x7.5mm, Pitch 1.27mm, IPC Medium Density)
footprint 211F_L (SOIC, 16-Leads, Body 10.3x7.5mm, Pitch 1.27mm, IPC High Density)
footprint 211F_M (SOIC, 16-Leads, Body 10.3x7.5mm, Pitch 1.27mm, IPC Low Density)
3D model SOIC16 (16-Pin Small Outline Integrated Circuit 1.27 mm Pitch)
pins: 1 A0 (in), 2 EN (in), 3 -V (power), 4 IN 1A (in), 5 IN 2A (in), 6 IN 3A (in), 7 IN 4A (in), 8 OUT A (hiz), 9 OUT B (hiz), 10 IN 4B (in), 11 IN 3B (in), 12 IN 2B (in), 13 IN 1B (in), 14 +V (power), 15 GND (power), 16 A1 (in)

## MPC800KG
designator U?
High-Speed CMOS Analog Multiplexer; Note: Pin 3 is No internal Connection (NC) pin.; Published: 8-Jun-2000; LatestRevisionDate: 06-Jun-2005; LatestRevisionNote: Stylized 3D Model Added.; DatasheetVersion: 1994; PackageVersion: 1994; PackageReference: 228; Publisher: Altium Limited; PackageDescription: DIP; 28 Leads; Row Spacing 15.24 mm; Pitch 2.54 mm; ComponentLink1Description: Manufacturer Link; ComponentLink1URL: http://www.ti.com/
footprint 228 (DIP; 28 Leads; Row Spacing 15.24 mm; Pitch 2.54 mm)
3D model 144 (DIP; 28 Leads; Row Spacing 15.24 mm; Pitch 2.54 mm)
pins: 1 +V (power), 2 OUT B (hiz), 3 NC, 4 IN 16/8B (in), 5 IN 15/7B (in), 6 IN 14/6B (in), 7 IN 13/5B (in), 8 IN 12/4B (in), 9 IN 11/3B (in), 10 IN 10/2B (in), 11 IN 9/1B (in), 12 GND (power), 13 VREF, 14 A3 (in), 15 A2 (in), 16 A1 (in), 17 A0 (in), 18 EN (in), 19 IN 1/1A (in), 20 IN 2/2A (in), 21 IN 3/3A (in), 22 IN 4/4A (in), 23 IN 5/5A (in), 24 IN 6/6A (in), 25 IN 7/7A (in), 26 IN 8/8A (in), 27 -V (power), 28 OUT A (hiz)

## MPC800SG
designator U?
High-Speed CMOS Analog Multiplexer; Note: Pin 3 is No internal Connection (NC) pin.; Published: 8-Jun-2000; LatestRevisionDate: 06-Jun-2005; LatestRevisionNote: Stylized 3D Model Added.; DatasheetVersion: 1994; PackageVersion: 1994; PackageReference: 228; Publisher: Altium Limited; PackageDescription: DIP; 28 Leads; Row Spacing 15.24 mm; Pitch 2.54 mm; ComponentLink1Description: Manufacturer Link; ComponentLink1URL: http://www.ti.com/
footprint 228 (DIP; 28 Leads; Row Spacing 15.24 mm; Pitch 2.54 mm)
3D model 144 (DIP; 28 Leads; Row Spacing 15.24 mm; Pitch 2.54 mm)
pins: 1 +V (power), 2 OUT B (hiz), 3 NC, 4 IN 16/8B (in), 5 IN 15/7B (in), 6 IN 14/6B (in), 7 IN 13/5B (in), 8 IN 12/4B (in), 9 IN 11/3B (in), 10 IN 10/2B (in), 11 IN 9/1B (in), 12 GND (power), 13 VREF, 14 A3 (in), 15 A2 (in), 16 A1 (in), 17 A0 (in), 18 EN (in), 19 IN 1/1A (in), 20 IN 2/2A (in), 21 IN 3/3A (in), 22 IN 4/4A (in), 23 IN 5/5A (in), 24 IN 6/6A (in), 25 IN 7/7A (in), 26 IN 8/8A (in), 27 -V (power), 28 OUT A (hiz)

## MPC801KG
designator U?
High-Speed CMOS Analog Multiplexer; Published: 8-Jun-2000; LatestRevisionDate: 06-Jun-2005; LatestRevisionNote: Stylized 3D Model Added.; DatasheetVersion: 1994; PackageVersion: 1994; PackageReference: 266; Publisher: Altium Limited; PackageDescription: DIP; 18 Leads; Row Spacing 7.62 mm; Pitch 2.54 mm; ComponentLink1Description: Manufacturer Link; ComponentLink1URL: http://www.ti.com/
footprint 266 (DIP; 18 Leads; Row Spacing 7.62 mm; Pitch 2.54 mm)
3D model 266 (DIP; 18 Leads; Row Spacing 7.62 mm; Pitch 2.54 mm)
pins: 1 +V (power), 2 OUT B (hiz), 3 IN 8/4B (in), 4 IN 7/3B (in), 5 IN 6/2B (in), 6 IN 5/1B (in), 7 GND (power), 8 VREF, 9 A2 (in), 10 A1 (in), 11 A0 (in), 12 EN (in), 13 IN 1/1A (in), 14 IN 2/2A (in), 15 IN 3/3A (in), 16 IN 4/4A (in), 17 -V (power), 18 OUT A (hiz)

## MPC801SG
designator U?
High-Speed CMOS Analog Multiplexer; Published: 8-Jun-2000; LatestRevisionDate: 06-Jun-2005; LatestRevisionNote: Stylized 3D Model Added.; DatasheetVersion: 1994; PackageVersion: 1994; PackageReference: 266; Publisher: Altium Limited; PackageDescription: DIP; 18 Leads; Row Spacing 7.62 mm; Pitch 2.54 mm; ComponentLink1Description: Manufacturer Link; ComponentLink1URL: http://www.ti.com/
footprint 266 (DIP; 18 Leads; Row Spacing 7.62 mm; Pitch 2.54 mm)
3D model 266 (DIP; 18 Leads; Row Spacing 7.62 mm; Pitch 2.54 mm)
pins: 1 +V (power), 2 OUT B (hiz), 3 IN 8/4B (in), 4 IN 7/3B (in), 5 IN 6/2B (in), 6 IN 5/1B (in), 7 GND (power), 8 VREF, 9 A2 (in), 10 A1 (in), 11 A0 (in), 12 EN (in), 13 IN 1/1A (in), 14 IN 2/2A (in), 15 IN 3/3A (in), 16 IN 4/4A (in), 17 -V (power), 18 OUT A (hiz)